# Altium schematic symbol library diy-modules.SCHLIB: 111 symbols (part 2 of 2)
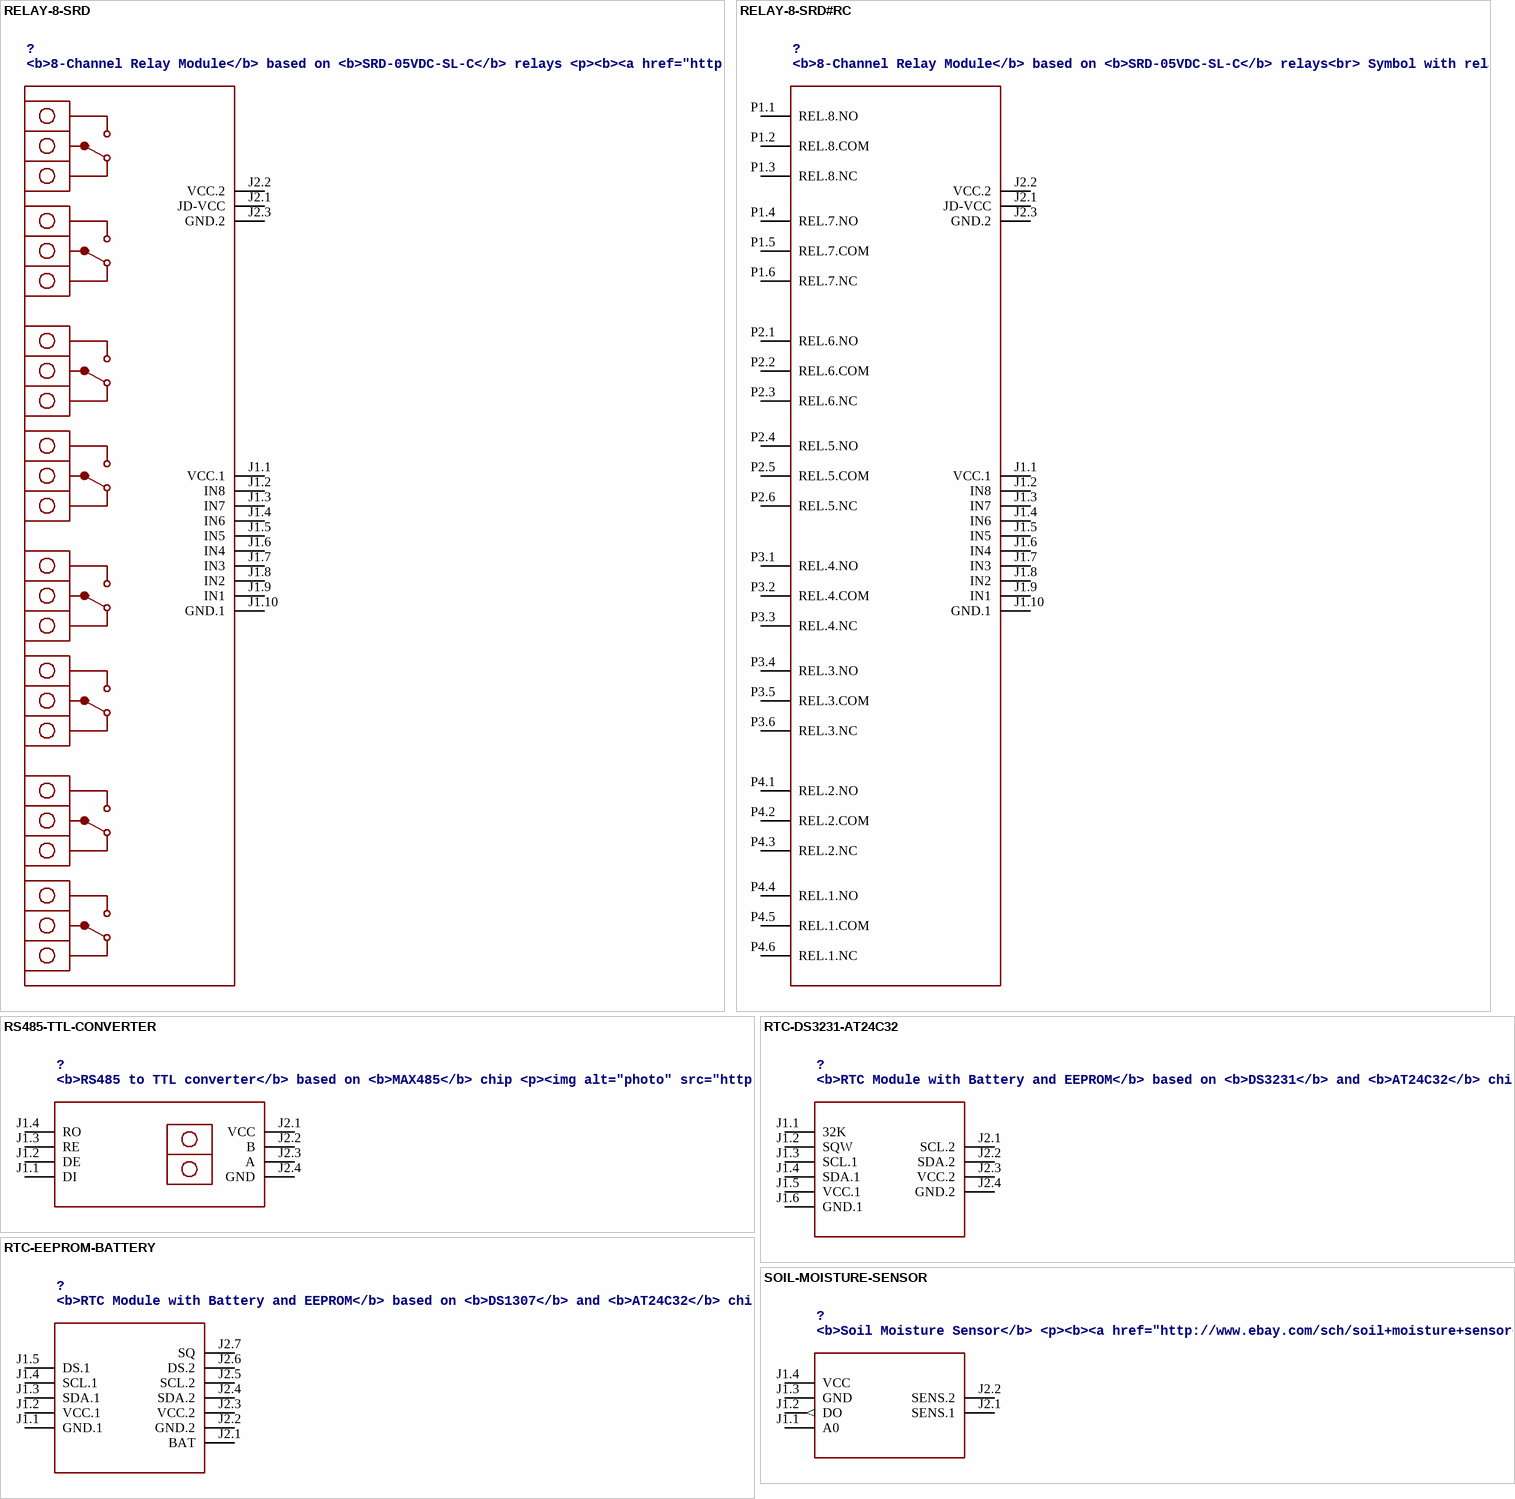
[diagram p15: symbols RELAY-8-SRD to SOIL-MOISTURE-SENSOR]

## RTC-EEPROM-BATTERY
designator ?, comment <b>RTC Module with Battery and EEPROM</b> based on <b>DS1307</b> and <b>AT24C32</b> chips / <p>More details available here:<br><a href="http://henrysbench.capnfatz.com/henrys-bench/arduino-sensors-and-input/arduino-tiny-rtc-d1307-tutorial/"> / http://henrysbench.capnfatz.com/henrys-bench/arduino-sensors-and-input/arduino-tiny-rtc-d1307-tutorial/</a></p> / <p><b><a href="http://www.ebay.com/sch/tiny+rtc+arduino">Click here to find device on ebay.com</a></b></p> / <p><img alt="photo" src="http://www.diymodules.org/img/device-photo.php?name=RTC-EEPROM-BATTERY"></p>
footprint RTC-EEPROM-BATTERY
pins: J1.1 GND.1 (power), J1.2 VCC.1 (power), J1.3 SDA.1, J1.4 SCL.1, J1.5 DS.1, J2.1 BAT, J2.2 GND.2 (power), J2.3 VCC.2 (power), J2.4 SDA.2, J2.5 SCL.2, J2.6 DS.2, J2.7 SQ

## SOIL-MOISTURE-SENSOR
designator ?, comment <b>Soil Moisture Sensor</b> / <p><b><a href="http://www.ebay.com/sch/soil+moisture+sensor+arduino">Click here to find device on ebay.com</a></b></p> / <p><img alt="photo" src="http://www.diymodules.org/img/device-photo.php?name=SOIL-MOISTURE-SENSOR"></p>
footprint SOIL-MOISTURE-SENSOR
pins: J1.1 A0, J1.2 DO (out), J1.3 GND (power), J1.4 VCC (power), J2.1 SENS.1, J2.2 SENS.2

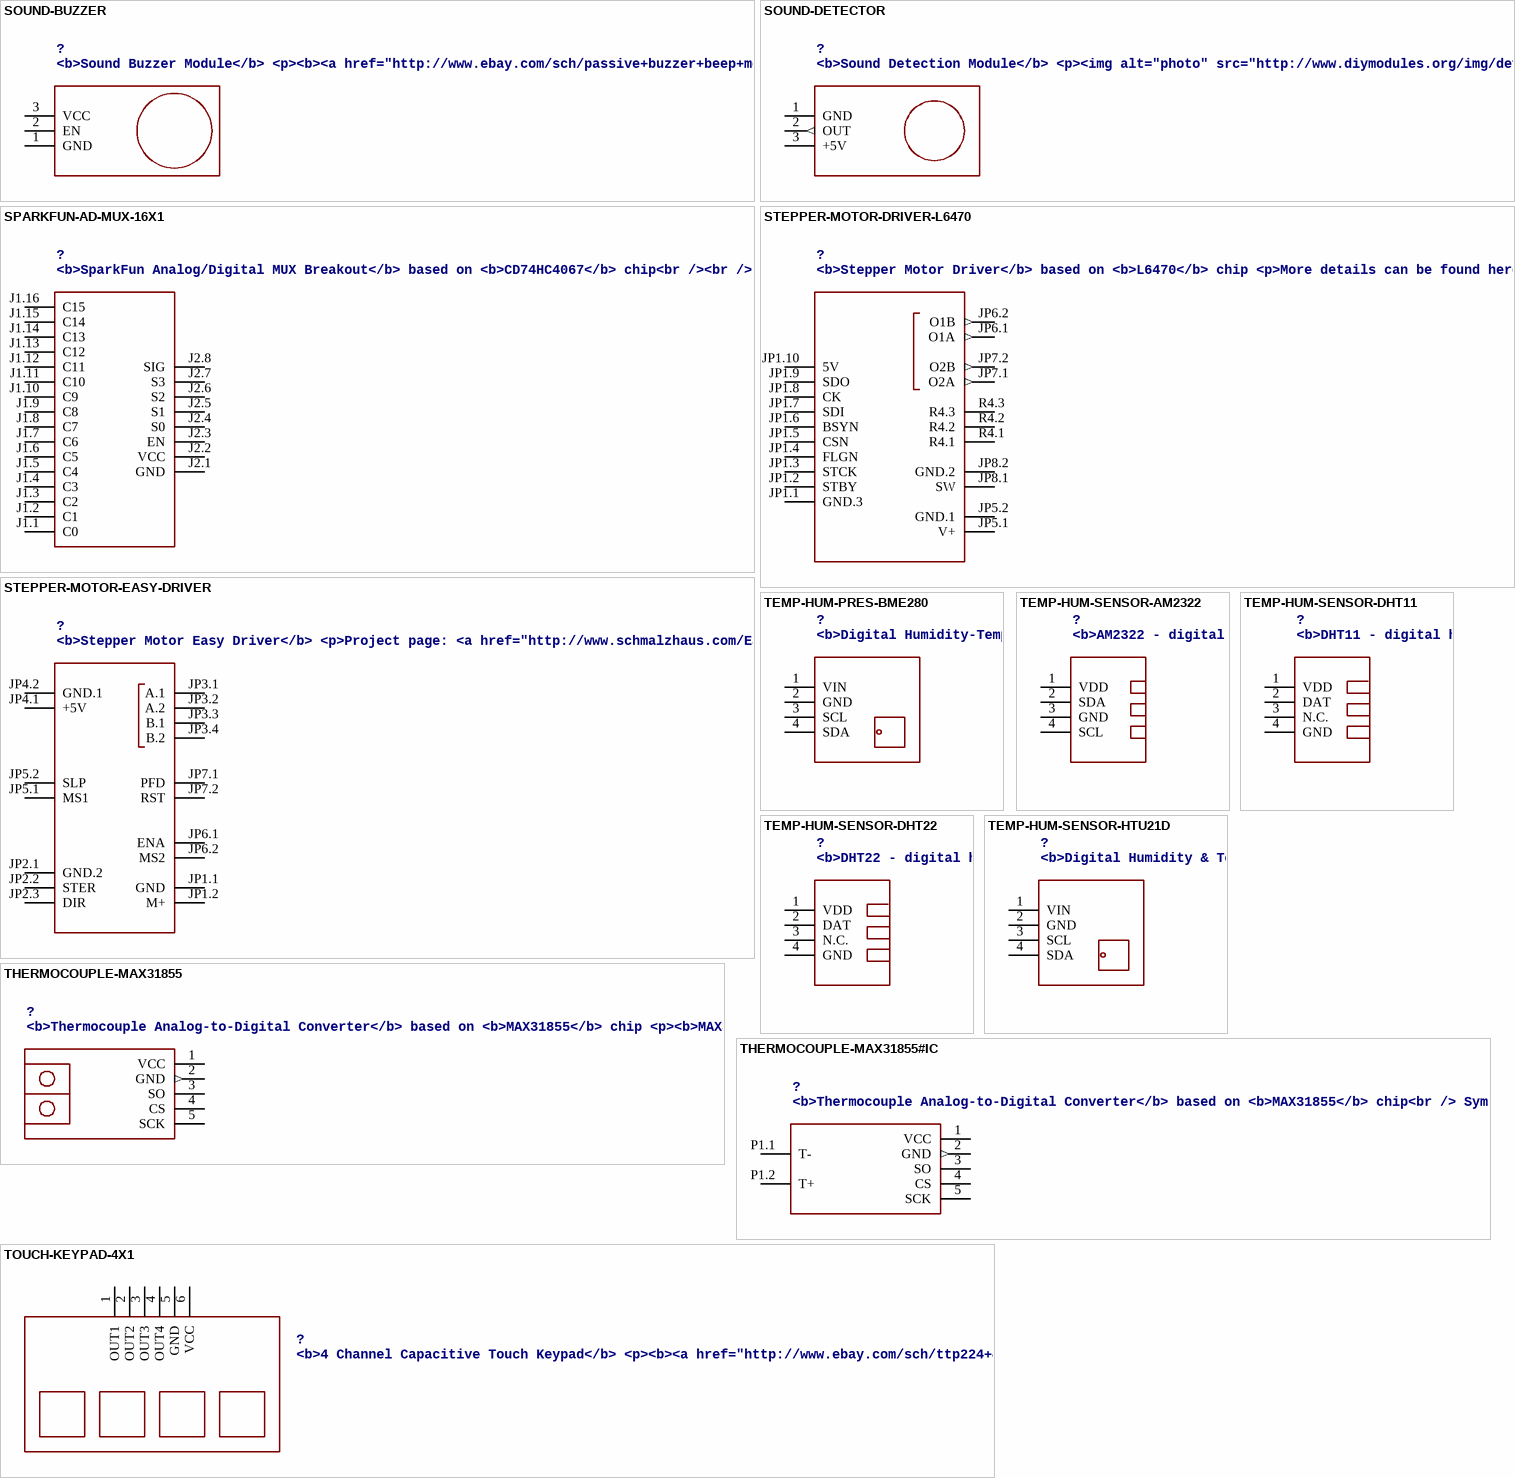
[diagram p11: symbols SOUND-BUZZER to TOUCH-KEYPAD-4X1]

## SOUND-BUZZER
designator ?, comment <b>Sound Buzzer Module</b> / <p><b><a href="http://www.ebay.com/sch/passive+buzzer+beep+module">Click here to find device on ebay.com</a></b></p> / <p><img alt="photo" src="http://www.diymodules.org/img/device-photo.php?name=SOUND-BUZZER"></p>
footprint SOUND-BUZZER
pins: 1 GND (power), 2 EN, 3 VCC (power)

## SOUND-DETECTOR
designator ?, comment <b>Sound Detection Module</b> / <p><img alt="photo" src="http://www.diymodules.org/img/device-photo.php?name=SOUND-DETECTOR"></p>
footprint SOUND-DETECTOR
pins: 1 GND (power), 2 OUT (out), 3 +5V (power)

## SPARKFUN-AD-MUX-16X1
designator ?, comment <b>SparkFun Analog/Digital MUX Breakout</b> based on <b>CD74HC4067</b> chip<br /><br /> / Source: <a href="https://www.sparkfun.com/products/9056">https://www.sparkfun.com/products/9056</a><br /> / <p><img alt="photo" src="http://www.diymodules.org/img/device-photo.php?name=SPARKFUN-AD-MUX-16X1"></p>
footprint SPARKFUN-AD-MUX-16X1
pins: J1.1 C0, J1.2 C1, J1.3 C2, J1.4 C3, J1.5 C4, J1.6 C5, J1.7 C6, J1.8 C7, J1.9 C8, J1.10 C9, J1.11 C10, J1.12 C11, J1.13 C12, J1.14 C13, J1.15 C14, J1.16 C15, J2.1 GND (power), J2.2 VCC (power), J2.3 EN, J2.4 S0, J2.5 S1, J2.6 S2, J2.7 S3, J2.8 SIG

## STEPPER-MOTOR-DRIVER-L6470
designator ?, comment <b>Stepper Motor Driver</b> based on <b>L6470</b> chip / <p>More details can be found here:<br /> / <a href="https://www.sparkfun.com/products/retired/10859">https://www.sparkfun.com/products/retired/10859</a></p> / <p><b>L6470</b> datasheet is available here:<br /> / <a href="www.st.com/resource/en/datasheet/CD00255075.pdf">www.st.com/resource/en/datasheet/CD00255075.pdf</a></p> / <p><b><a href="http://www.ebay.com/sch/l6470+breakout">Click here to find device on ebay.com</a></b></p> / <p><img alt="photo" src="http://www.diymodules.org/img/device-photo.php?name=STEPPER-MOTOR-DRIVER-L6470"></p>
footprint STEPPER-MOTOR-DRIVER-L6470
pins: JP1.1 GND.3 (power), JP1.2 STBY, JP1.3 STCK, JP1.4 FLGN, JP1.5 CSN, JP1.6 BSYN, JP1.7 SDI, JP1.8 CK, JP1.9 SDO, JP1.10 5V (power), JP5.1 V+ (power), JP5.2 GND.1 (power), JP6.1 O1A (out), JP6.2 O1B (out), JP7.1 O2A (out), JP7.2 O2B (out), JP8.1 SW, JP8.2 GND.2, R4.1, R4.2, R4.3

## STEPPER-MOTOR-EASY-DRIVER
designator ?, comment <b>Stepper Motor Easy Driver</b> / <p>Project page: <a href="http://www.schmalzhaus.com/EasyDriver/">http://www.schmalzhaus.com/EasyDriver/</a></p> / <p><b><a href="http://www.ebay.com/sch/easydriver+stepper+motor+driver">Click here to find device on ebay.com</a></b></p> / <p><img alt="photo" src="http://www.diymodules.org/img/device-photo.php?name=STEPPER-MOTOR-EASY-DRIVER"></p>
footprint STEPPER-MOTOR-EASY-DRIVER
pins: JP1.1 GND, JP1.2 M+, JP2.1 GND.2, JP2.2 STER, JP2.3 DIR, JP3.1 A.1, JP3.2 A.2, JP3.3 B.1, JP3.4 B.2, JP4.1 +5V, JP4.2 GND.1, JP5.1 MS1, JP5.2 SLP, JP6.1 ENA, JP6.2 MS2, JP7.1 PFD, JP7.2 RST

## TEMP-HUM-PRES-BME280
designator ?, comment <b>Digital Humidity-Temperature-Pressure Sensor</b> based on <b>BME280</b> device / <p>More information about <b>BME280</b> device is available here:<br> / <a href="https://www.bosch-sensortec.com/bst/products/all_products/bme280">https://www.bosch-sensortec.com/bst/products/all_products/bme280</a></p> / <p><b><a href="http://www.ebay.com/sch/bme280+breakout">Click here to find device on ebay.com</a></b></p> / <p><img alt="photo" src="http://www.diymodules.org/img/device-photo.php?name=TEMP-HUM-PRES-BME280"></p>
footprint TEMP-HUM-PRES-BME280
pins: 1 VIN (power), 2 GND (power), 3 SCL, 4 SDA

## TEMP-HUM-SENSOR-AM2322
designator ?, comment <b>AM2322 - digital humidity & temperature sensor</b> / <p>More information about <b>AM2322</b> is available here:<br> / <a href="http://www.electrodragon.com/w/AM2322">http://www.electrodragon.com/w/AM2322</a></p> / <p><b><a href="http://www.ebay.com/sch/am2322+digital+sensor">Click here to find device on ebay.com</a></b></p> / <p><img alt="photo" src="http://www.diymodules.org/img/device-photo.php?name=TEMP-HUM-SENSOR-AM2322"></p>
footprint TEMP-HUM-SENSOR-AM2322
pins: 1 VDD (power), 2 SDA, 3 GND (power), 4 SCL

## TEMP-HUM-SENSOR-DHT11
designator ?, comment <b>DHT11 - digital humidity & temperature sensor</b> / <p><b>DHT11</b> datasheet available here:<br> / <a href="https://akizukidenshi.com/download/ds/aosong/DHT11.pdf">https://akizukidenshi.com/download/ds/aosong/DHT11.pdf</a></p> / <p><b><a href="http://www.ebay.com/sch/dht11+digital+sensor">Click here to find device on ebay.com</a></b></p> / <p><img alt="photo" src="http://www.diymodules.org/img/device-photo.php?name=TEMP-HUM-SENSOR-DHT11"></p>
footprint TEMP-HUM-SENSOR-DHT11
pins: 1 VDD (power), 2 DAT, 3 N.C., 4 GND (power)

## TEMP-HUM-SENSOR-DHT22
designator ?, comment <b>DHT22 - digital humidity & temperature sensor</b><br /> / Also known as: <b>AM2302</b> / <p><b>AM2302</b> datasheet available here:<br> / <a href="http://akizukidenshi.com/download/ds/aosong/AM2302.pdf">http://akizukidenshi.com/download/ds/aosong/AM2302.pdf</a></p> / <p><b><a href="http://www.ebay.com/sch/dht22+digital+sensor">Click here to find device on ebay.com</a></b></p> / <p><img alt="photo" src="http://www.diymodules.org/img/device-photo.php?name=TEMP-HUM-SENSOR-DHT22"></p>
footprint TEMP-HUM-SENSOR-DHT22
pins: 1 VDD (power), 2 DAT, 3 N.C., 4 GND (power)

## TEMP-HUM-SENSOR-HTU21D
designator ?, comment <b>Digital Humidity & Temperature Sensor</b> based on <b>HTU21D</b> device / <p>More information about <b>HTU21D</b> device is available here:<br> / <a href="http://futureeverything.org/wp-content/uploads/2014/05/Humidity-Datasheet.pdf">http://futureeverything.org/wp-content/uploads/2014/05/Humidity-Datasheet.pdf</a></p> / <p><b>HTU21D</b> Arudino Library is available here:<br> / <a href="https://learn.sparkfun.com/tutorials/htu21d-humidity-sensor-hookup-guide/htu21d-library-and-functions">https://learn.sparkfun.com/tutorials/htu21d-humidity-sensor-hookup-guide/htu21d-library-and-functions</a></p> / <p><b><a href="http://www.ebay.com/sch/htu21d+board">Click here to find device on ebay.com</a></b></p><p><img alt="photo" src="http://www.diymodules.org/img/device-photo.php?name=TEMP-HUM-SENSOR-HTU21D"></p>
footprint TEMP-HUM-SENSOR-HTU21D
pins: 1 VIN (power), 2 GND (power), 3 SCL, 4 SDA

## THERMOCOUPLE-MAX31855
designator ?, comment <b>Thermocouple Analog-to-Digital Converter</b> based on <b>MAX31855</b> chip / <p><b>MAX31855</b> datasheet available here:<br /> / <a href="https://www.maximintegrated.com/en/products/analog/sensors-and-sensor-interface/MAX31855.html">https://www.maximintegrated.com/en/products/analog/sensors-and-sensor-interface/MAX31855.html</a></p> / <p><b><a href="http://www.ebay.com/sch/max31855k+module">Click here to find device on ebay.com</a></b></p> / <p><img alt="photo" src="http://www.diymodules.org/img/device-photo.php?name=THERMOCOUPLE-MAX31855"></p>
footprint THERMOCOUPLE-MAX31855
pins: 1 VCC (power), 2 GND (out), 3 SO, 4 CS, 5 SCK

## THERMOCOUPLE-MAX31855#IC
designator ?, comment <b>Thermocouple Analog-to-Digital Converter</b> based on <b>MAX31855</b> chip<br /> / Symbol with thermocouple connector pins / <p><b>MAX31855</b> datasheet available here:<br /> / <a href="https://www.maximintegrated.com/en/products/analog/sensors-and-sensor-interface/MAX31855.html">https://www.maximintegrated.com/en/products/analog/sensors-and-sensor-interface/MAX31855.html</a></p> / <p><b><a href="http://www.ebay.com/sch/max31855k+module">Click here to find device on ebay.com</a></b></p> / <p><img alt="photo" src="http://www.diymodules.org/img/device-photo.php?name=THERMOCOUPLE-MAX31855"></p>
footprint THERMOCOUPLE-MAX31855#IC
pins: 1 VCC (power), 2 GND (out), 3 SO, 4 CS, 5 SCK, P1.1 T-, P1.2 T+

## TOUCH-KEYPAD-4X1
designator ?, comment <b>4 Channel Capacitive Touch Keypad</b> / <p><b><a href="http://www.ebay.com/sch/ttp224+4+channel+digital+capacitive+touch+sensor">Click here to find device on ebay.com</a></b></p> / <p><img alt="photo" src="http://www.diymodules.org/img/device-photo.php?name=TOUCH-KEYPAD-4X1"></p>
footprint TOUCH-KEYPAD-4X1
pins: 1 OUT1, 2 OUT2, 3 OUT3, 4 OUT4, 5 GND (power), 6 VCC (power)

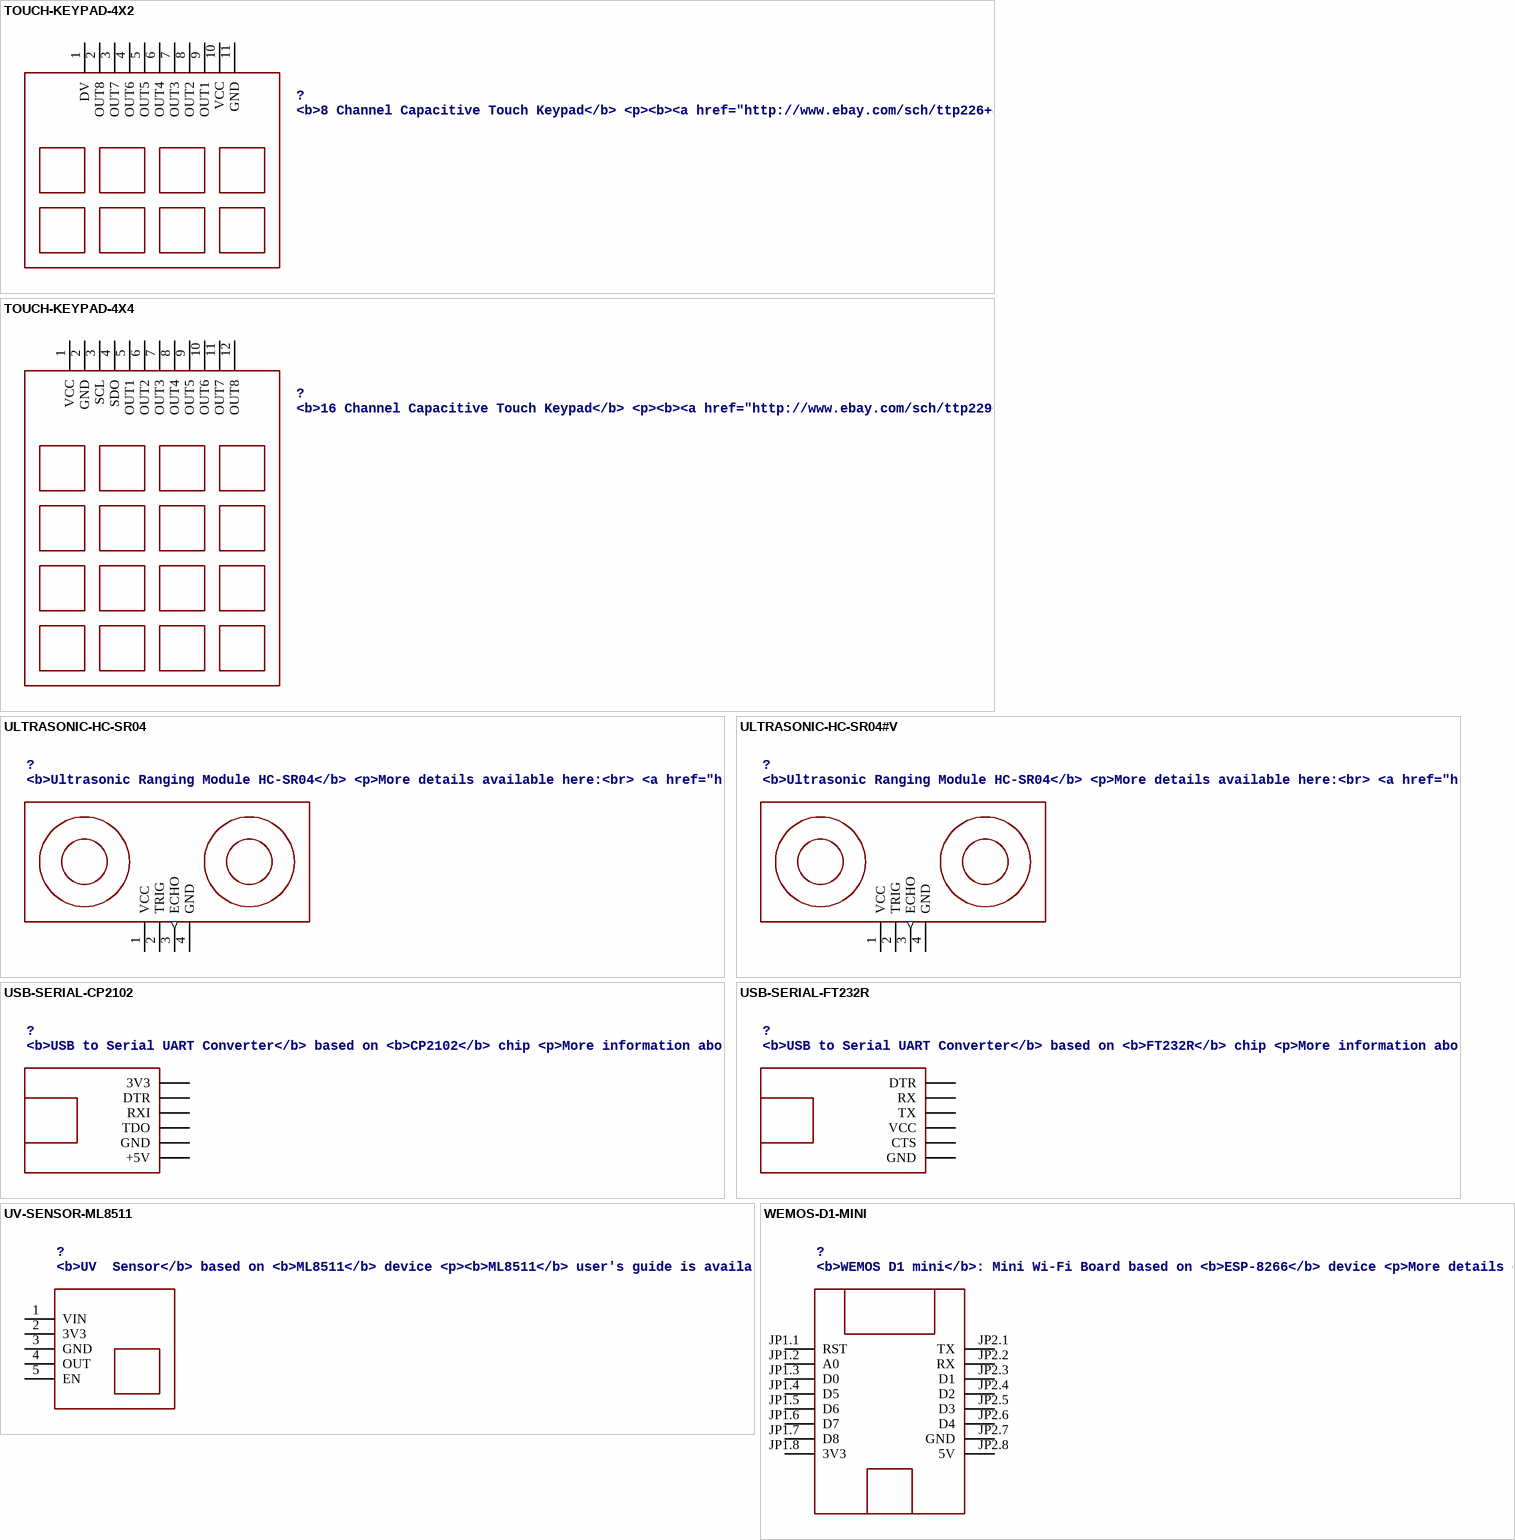
[diagram p12: symbols TOUCH-KEYPAD-4X2 to WEMOS-D1-MINI]

## TOUCH-KEYPAD-4X2
designator ?, comment <b>8 Channel Capacitive Touch Keypad</b> / <p><b><a href="http://www.ebay.com/sch/ttp226+8+channel+digital+capacitive+touch+sensor">Click here to find device on ebay.com</a></b></p> / <p><img alt="photo" src="http://www.diymodules.org/img/device-photo.php?name=TOUCH-KEYPAD-4X2"></p>
footprint TOUCH-KEYPAD-4X2
pins: 1 DV, 2 OUT8, 3 OUT7, 4 OUT6, 5 OUT5, 6 OUT4, 7 OUT3, 8 OUT2, 9 OUT1, 10 VCC (power), 11 GND (power)

## TOUCH-KEYPAD-4X4
designator ?, comment <b>16 Channel Capacitive Touch Keypad</b> / <p><b><a href="http://www.ebay.com/sch/ttp229+16+channel+digital+capacitive+touch+sensor">Click here to find device on ebay.com</a></b></p> / <p><img alt="photo" src="http://www.diymodules.org/img/device-photo.php?name=TOUCH-KEYPAD-4X4"></p>
footprint TOUCH-KEYPAD-4X4
pins: 1 VCC (power), 2 GND (power), 3 SCL, 4 SDO, 5 OUT1, 6 OUT2, 7 OUT3, 8 OUT4, 9 OUT5, 10 OUT6, 11 OUT7, 12 OUT8

## ULTRASONIC-HC-SR04
designator ?, comment <b>Ultrasonic Ranging Module HC-SR04</b> / <p>More details available here:<br> / <a href="http://randomnerdtutorials.com/complete-guide-for-ultrasonic-sensor-hc-sr04/"> / http://randomnerdtutorials.com/complete-guide-for-ultrasonic-sensor-hc-sr04/</a></p> / <p><b><a href="http://www.ebay.com/sch/hc+sr04+ultrasonic">Click here to find device on ebay.com</a></b></p> / <p><img alt="photo" src="http://www.diymodules.org/img/device-photo.php?name=ULTRASONIC-HC-SR04"></p>
footprint ULTRASONIC-HC-SR04
pins: 1 VCC (power), 2 TRIG, 3 ECHO (out), 4 GND (power)

## ULTRASONIC-HC-SR04#V
designator ?, comment <b>Ultrasonic Ranging Module HC-SR04</b> / <p>More details available here:<br> / <a href="http://randomnerdtutorials.com/complete-guide-for-ultrasonic-sensor-hc-sr04/"> / http://randomnerdtutorials.com/complete-guide-for-ultrasonic-sensor-hc-sr04/</a></p> / <p><b><a href="http://www.ebay.com/sch/hc+sr04+ultrasonic">Click here to find device on ebay.com</a></b></p> / <p><img alt="photo" src="http://www.diymodules.org/img/device-photo.php?name=ULTRASONIC-HC-SR04"></p>
footprint ULTRASONIC-HC-SR04#V
pins: 1 VCC (power), 2 TRIG, 3 ECHO (out), 4 GND (power)

## USB-SERIAL-CP2102
designator ?, comment <b>USB to Serial UART Converter</b> based on <b>CP2102</b> chip / <p>More information about <b>CP2102</b> chip is available here:<br> / <a href="https://www.silabs.com/documents/public/data-sheets/CP2102-9.pdf">https://www.silabs.com/documents/public/data-sheets/CP2102-9.pdf</a></p> / <p>Drivers for <b>CP210x</b> devices are available here:<br> / <a href="http://www.silabs.com/products/development-tools/software/usb-to-uart-bridge-vcp-drivers">http://www.silabs.com/products/development-tools/software/usb-to-uart-bridge-vcp-drivers</a></p> / <p><b><a href="http://www.ebay.com/sch/cp2102+micro+usb">Click here to find device on ebay.com</a></b></p> / <p><img alt="photo" src="http://www.diymodules.org/img/device-photo.php?name=USB-SERIAL-CP2102"></p>
footprint USB-SERIAL-CP2102
pins: 1 3V3 (power), 2 DTR, 3 RXI, 4 TDO, 5 GND (power), 6 +5V (power)

## USB-SERIAL-FT232R
designator ?, comment <b>USB to Serial UART Converter</b> based on <b>FT232R</b> chip / <p>More information about <b>FT232R</b> chip is available here:<br> / <a href="http://www.ftdichip.com/Products/ICs/FT232R.htm">http://www.ftdichip.com/Products/ICs/FT232R.htm</a></p> / <p><b><a href="http://www.ebay.com/sch/ft232rl+arduino+download+max232">Click here to find device on ebay.com</a></b></p> / <p><img alt="photo" src="http://www.diymodules.org/img/device-photo.php?name=USB-SERIAL-FT232R"></p>
footprint USB-SERIAL-FT232R
pins: 1 DTR, 2 RX, 3 TX, 4 VCC (power), 5 CTS, 6 GND

## UV-SENSOR-ML8511
designator ?, comment <b>UV  Sensor</b> based on <b>ML8511</b> device / <p><b>ML8511</b> user's guide is available here:<br /> / <a href="https://learn.sparkfun.com/tutorials/ml8511-uv-sensor-hookup-guide/using-the-ml8511">https://learn.sparkfun.com/tutorials/ml8511-uv-sensor-hookup-guide/using-the-ml8511</a></p> / <p><b>ML8511</b> datasheet is available here:<br /> / <a href="https://www.mcs.anl.gov/research/projects/waggle/downloads/datasheets/lightsense/ml8511.pdf">https://www.mcs.anl.gov/research/projects/waggle/downloads/datasheets/lightsense/ml8511.pdf</a></p> / <p><b><a href="http://www.ebay.com/sch/ml8511+module">Click here to find device on ebay.com</a></b></p> / <p><img alt="photo" src="http://www.diymodules.org/img/device-photo.php?name=UV-SENSOR-ML8511"></p>
footprint UV-SENSOR-ML8511
pins: 1 VIN (power), 2 3V3 (power), 3 GND (power), 4 OUT, 5 EN

## WEMOS-D1-MINI
designator ?, comment <b>WEMOS D1 mini</b>: Mini Wi-Fi Board based on <b>ESP-8266</b> device / <p>More details can be found here:<br /> / <a href="https://www.wemos.cc/product/d1-mini.html">https://www.wemos.cc/product/d1-mini.html</a></p> / <p><b><a href="http://www.ebay.com/sch/wemos+d1+mini+nodemcu">Click here to find device on ebay.com</a></b></p> / <p><img alt="photo" src="http://www.diymodules.org/img/device-photo.php?name=WEMOS-D1-MINI"></p>
footprint WEMOS-D1-MINI
pins: JP1.1 RST, JP1.2 A0, JP1.3 D0, JP1.4 D5, JP1.5 D6, JP1.6 D7, JP1.7 D8, JP1.8 3V3 (power), JP2.1 TX, JP2.2 RX, JP2.3 D1, JP2.4 D2, JP2.5 D3, JP2.6 D4, JP2.7 GND (power), JP2.8 5V (power)

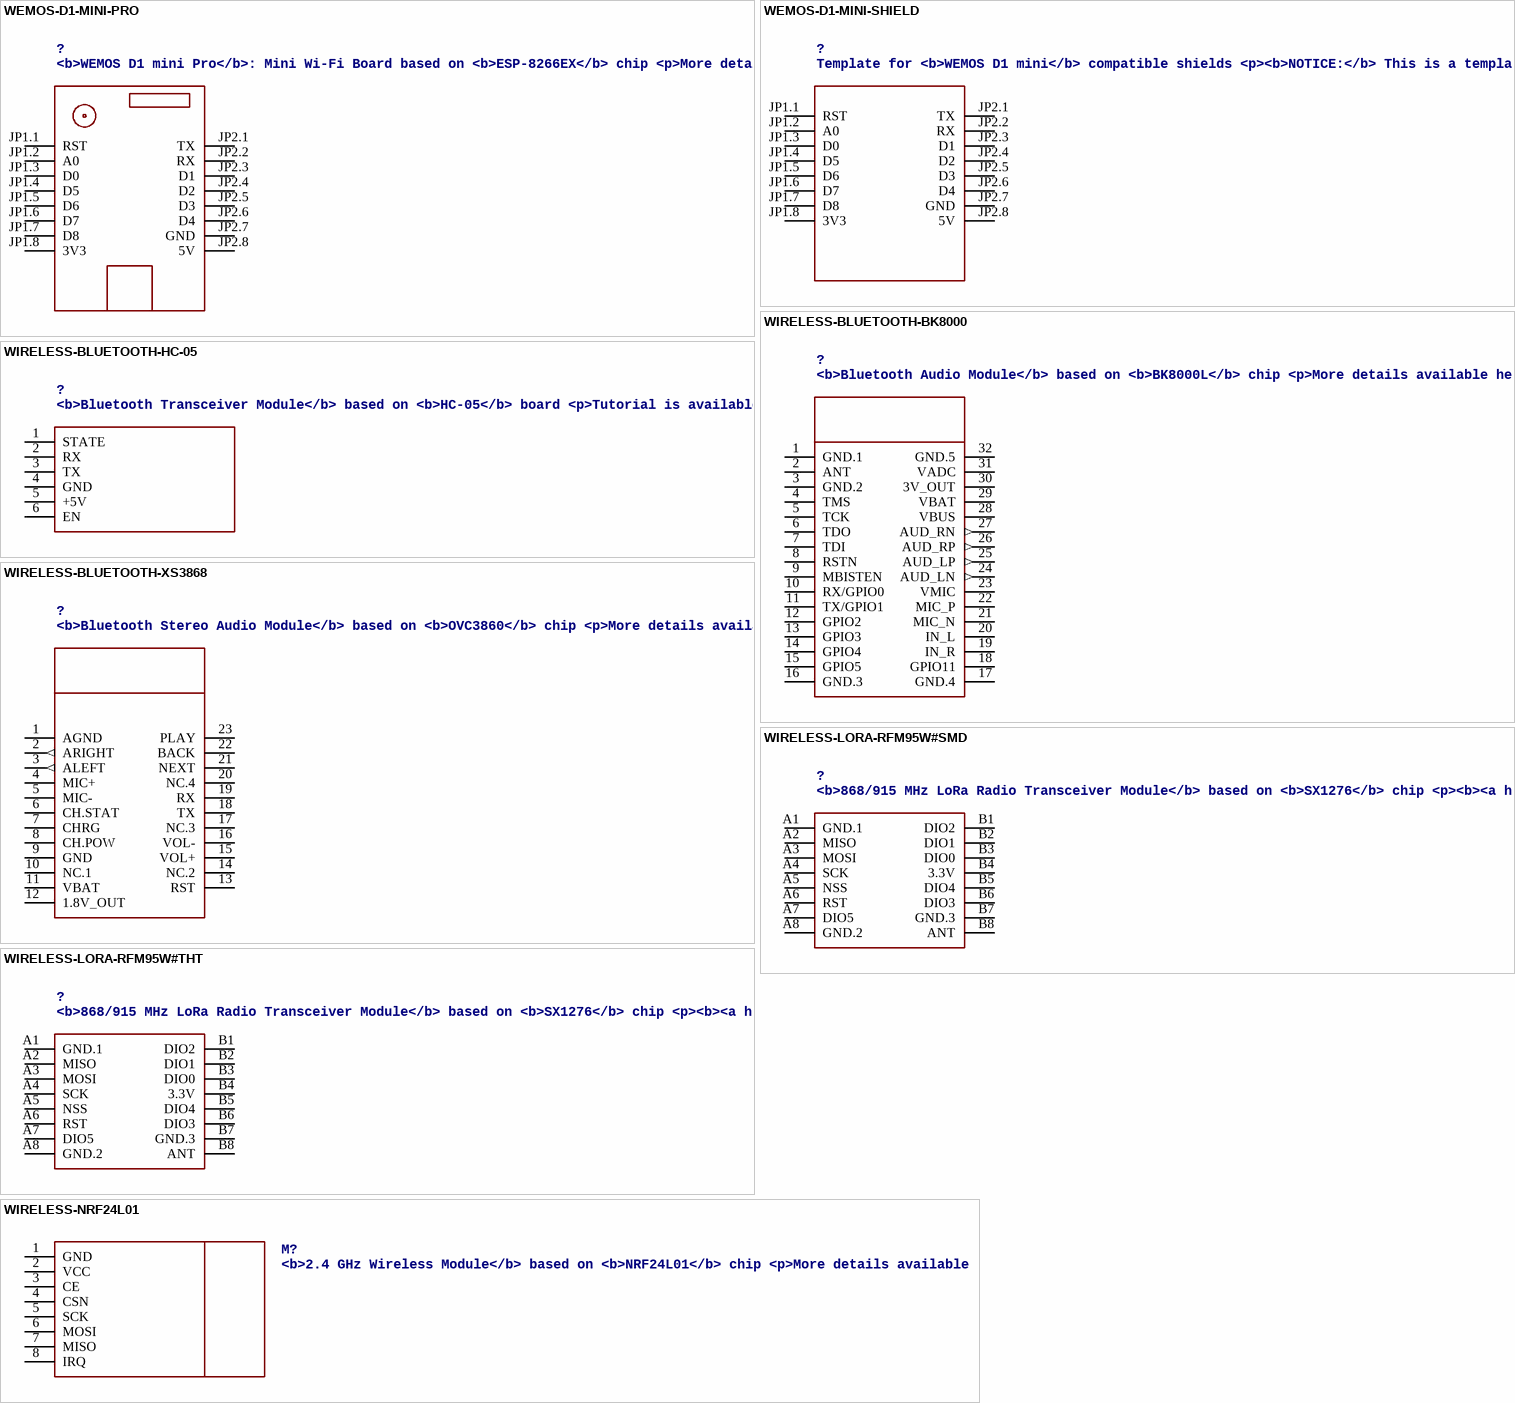
[diagram p13: symbols WEMOS-D1-MINI-PRO to WIRELESS-NRF24L01]

## WEMOS-D1-MINI-PRO
designator ?, comment <b>WEMOS D1 mini Pro</b>: Mini Wi-Fi Board based on <b>ESP-8266EX</b> chip / <p>More details can be found here:<br /> / <a href="https://www.wemos.cc/product/d1-mini-pro.html">https://www.wemos.cc/product/d1-mini-pro.html</a></p> / <p><b><a href="http://www.ebay.com/sch/wemos+d1+mini+pro">Click here to find device on ebay.com</a></b></p> / <p><img alt="photo" src="http://www.diymodules.org/img/device-photo.php?name=WEMOS-D1-MINI-PRO"></p>
footprint WEMOS-D1-MINI-PRO
pins: JP1.1 RST, JP1.2 A0, JP1.3 D0, JP1.4 D5, JP1.5 D6, JP1.6 D7, JP1.7 D8, JP1.8 3V3 (power), JP2.1 TX, JP2.2 RX, JP2.3 D1, JP2.4 D2, JP2.5 D3, JP2.6 D4, JP2.7 GND (power), JP2.8 5V (power)

## WEMOS-D1-MINI-SHIELD
designator ?, comment Template for <b>WEMOS D1 mini</b> compatible shields / <p><b>NOTICE:</b> This is a template only.<br />You can use it as a base to create symbols for <b>WEMOS D1 mini</b> compatible shields. / <p>Official list of available shields can be found here:<br /> / <a href="https://www.wemos.cc/D1-mini-Shields">https://www.wemos.cc/D1-mini-Shields</a></p>
footprint WEMOS-D1-MINI-SHIELD
pins: JP1.1 RST, JP1.2 A0, JP1.3 D0, JP1.4 D5, JP1.5 D6, JP1.6 D7, JP1.7 D8, JP1.8 3V3 (power), JP2.1 TX, JP2.2 RX, JP2.3 D1, JP2.4 D2, JP2.5 D3, JP2.6 D4, JP2.7 GND (power), JP2.8 5V (power)

## WIRELESS-BLUETOOTH-BK8000
designator ?, comment <b>Bluetooth Audio Module</b> based on <b>BK8000L</b> chip / <p>More details available here:<br /> / <a href="http://www.electrodragon.com/w/BK8000L">http://www.electrodragon.com/w/BK8000L</a></p> / <p><b><a href="http://www.ebay.com/sch/bk8000l+module">Click here to find device on ebay.com</a></b></p> / <p><img alt="photo" src="http://www.diymodules.org/img/device-photo.php?name=WIRELESS-BLUETOOTH-BK8000"></p>
footprint WIRELESS-BLUETOOTH-BK8000
pins: 1 GND.1 (power), 2 ANT, 3 GND.2 (power), 4 TMS, 5 TCK, 6 TDO, 7 TDI, 8 RSTN, 9 MBISTEN, 10 RX/GPIO0, 11 TX/GPIO1, 12 GPIO2, 13 GPIO3, 14 GPIO4, 15 GPIO5, 16 GND.3 (power), 17 GND.4 (power), 18 GPIO11, 19 IN_R, 20 IN_L, 21 MIC_N, 22 MIC_P, 23 VMIC, 24 AUD_LN (out), 25 AUD_LP (out), 26 AUD_RP (out), 27 AUD_RN (out), 28 VBUS, 29 VBAT, 30 3V_OUT (power), 31 VADC (power), 32 GND.5 (power)

## WIRELESS-BLUETOOTH-HC-05
designator ?, comment <b>Bluetooth Transceiver Module</b> based on <b>HC-05</b> board / <p>Tutorial is available here:<br /> / <a href="https://arduino-info.wikispaces.com/BlueTooth-HC05-HC06-Modules-How-To">https://arduino-info.wikispaces.com/BlueTooth-HC05-HC06-Modules-How-To</a></p> / <p><b><a href="http://www.ebay.com/sch/hc-05+module+rs232">Click here to find device on ebay.com</a></b></p> / <p><img alt="photo" src="http://www.diymodules.org/img/device-photo.php?name=WIRELESS-BLUETOOTH-HC-05"></p>
footprint WIRELESS-BLUETOOTH-HC-05
pins: 1 STATE, 2 RX, 3 TX, 4 GND (power), 5 +5V (power), 6 EN

## WIRELESS-BLUETOOTH-XS3868
designator ?, comment <b>Bluetooth Stereo Audio Module</b> based on <b>OVC3860</b> chip / <p>More details available here:<br> / <a href="http://artofcircuits.com/product/bluetooth-2-0-edr-stereo-audio-ovc3860-module-model-xs-3868"> / http://artofcircuits.com/product/bluetooth-2-0-edr-stereo-audio-ovc3860-module-model-xs-3868</a></p> / <p><b><a href="http://www.ebay.com/sch/xs3868+bluetooth+audio+module">Click here to find device on ebay.com</a></b></p> / <p><img alt="photo" src="http://www.diymodules.org/img/device-photo.php?name=WIRELESS-BLUETOOTH-XS3868"></p>
footprint WIRELESS-BLUETOOTH-XS3868
pins: 1 AGND (power), 2 ARIGHT (out), 3 ALEFT (out), 4 MIC+, 5 MIC-, 6 CH.STAT, 7 CHRG, 8 CH.POW, 9 GND (power), 10 NC.1, 11 VBAT (power), 12 1.8V_OUT (power), 13 RST (power), 14 NC.2, 15 VOL+, 16 VOL-, 17 NC.3, 18 TX, 19 RX, 20 NC.4, 21 NEXT, 22 BACK, 23 PLAY

## WIRELESS-LORA-RFM95W#SMD
designator ?, comment <b>868/915 MHz LoRa Radio Transceiver Module</b> based on <b>SX1276</b> chip / <p><b><a href="http://www.ebay.com/sch/RFM95W+transceiver">Click here to find device on ebay.com</a></b></p> / <p><img alt="photo" src="http://www.diymodules.org/img/device-photo.php?name=WIRELESS-LORA-RFM95W"></p>
footprint WIRELESS-LORA-RFM95W#SMD
pins: A1 GND.1 (power), A2 MISO, A3 MOSI, A4 SCK, A5 NSS, A6 RST, A7 DIO5, A8 GND.2 (power), B1 DIO2, B2 DIO1, B3 DIO0, B4 3.3V (power), B5 DIO4, B6 DIO3, B7 GND.3 (power), B8 ANT

## WIRELESS-LORA-RFM95W#THT
designator ?, comment <b>868/915 MHz LoRa Radio Transceiver Module</b> based on <b>SX1276</b> chip / <p><b><a href="http://www.ebay.com/sch/RFM95W+transceiver">Click here to find device on ebay.com</a></b></p> / <p><img alt="photo" src="http://www.diymodules.org/img/device-photo.php?name=WIRELESS-LORA-RFM95W"></p>
footprint WIRELESS-LORA-RFM95W#THT
pins: A1 GND.1 (power), A2 MISO, A3 MOSI, A4 SCK, A5 NSS, A6 RST, A7 DIO5, A8 GND.2 (power), B1 DIO2, B2 DIO1, B3 DIO0, B4 3.3V (power), B5 DIO4, B6 DIO3, B7 GND.3 (power), B8 ANT

## WIRELESS-NRF24L01
designator M?, comment <b>2.4 GHz Wireless Module</b> based on <b>NRF24L01</b> chip / <p>More details available here:<br> / <a href="http://www.electrodragon.com/w/NRF24L01">http://www.electrodragon.com/w/NRF24L01</a></p> / <p><b><a href="http://www.ebay.com/sch/nrf24l01+arduino">Click here to find device on ebay.com</a></b></p> / <p><img alt="photo" src="http://www.diymodules.org/img/device-photo.php?name=WIRELESS-NRF24L01"></p>
footprint WIRELESS-NRF24L01
pins: 1 GND (power), 2 VCC (power), 3 CE, 4 CSN, 5 SCK, 6 MOSI, 7 MISO, 8 IRQ

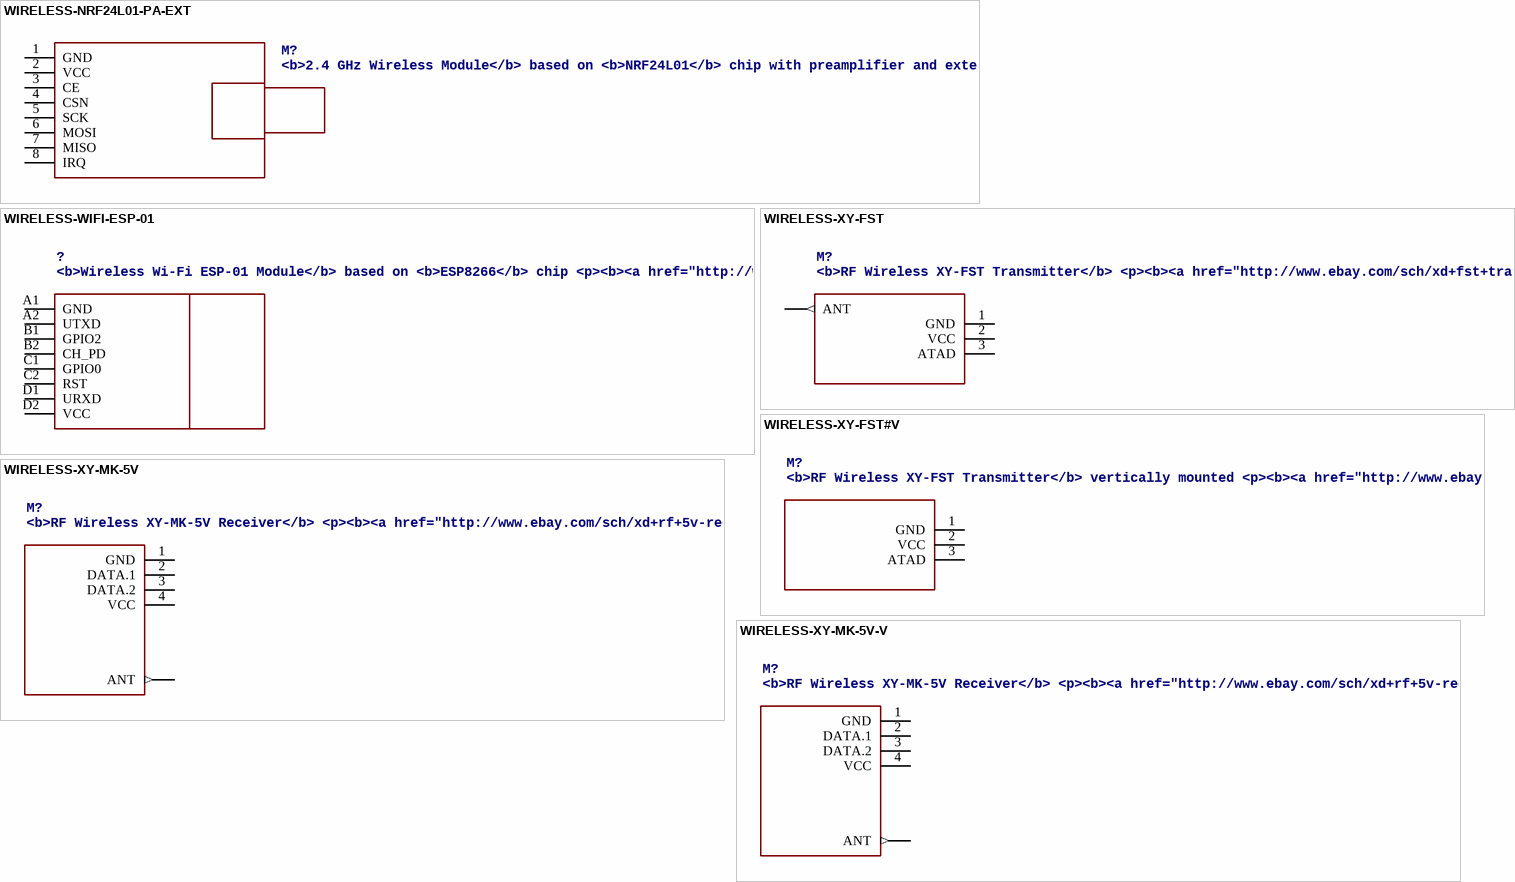
[diagram p14: symbols WIRELESS-NRF24L01-PA-EXT to WIRELESS-XY-MK-5V-V]

## WIRELESS-NRF24L01-PA-EXT
designator M?, comment <b>2.4 GHz Wireless Module</b> based on <b>NRF24L01</b> chip with preamplifier and external antenna / <p><b><a href="http://www.ebay.com/sch/nrf24l01+pa+lna+sma">Click here to find device on ebay.com</a></b></p> / <p><img alt="photo" src="http://www.diymodules.org/img/device-photo.php?name=WIRELESS-NRF24L01-PA-EXT"></p>
footprint WIRELESS-NRF24L01-PA-EXT
pins: 1 GND (power), 2 VCC (power), 3 CE, 4 CSN, 5 SCK, 6 MOSI, 7 MISO, 8 IRQ

## WIRELESS-WIFI-ESP-01
designator ?, comment <b>Wireless Wi-Fi ESP-01 Module</b> based on <b>ESP8266</b> chip / <p><b><a href="http://www.ebay.com/sch/esp8266+esp+01+transceiver">Click here to find device on ebay.com</a></b></p> / <p><img alt="photo" src="http://www.diymodules.org/img/device-photo.php?name=WIRELESS-WIFI-ESP-01"></p>
footprint WIRELESS-WIFI-ESP-01
pins: A1 GND (power), A2 UTXD, B1 GPIO2, B2 CH_PD, C1 GPIO0, C2 RST, D1 URXD, D2 VCC (power)

## WIRELESS-XY-FST
designator M?, comment <b>RF Wireless XY-FST Transmitter</b> / <p><b><a href="http://www.ebay.com/sch/xd+fst+transmitter">Click here to find device on ebay.com</a></b><br /> / <b>Note:</b> Sold together with receiver.</p> / <p><img alt="photo" src="http://www.diymodules.org/img/device-photo.php?name=WIRELESS-XY-FST"></p>
footprint WIRELESS-XY-FST
pins: 1 GND (power), 2 VCC (power), 3 ATAD, ANT (out)

## WIRELESS-XY-FST#V
designator M?, comment <b>RF Wireless XY-FST Transmitter</b> vertically mounted / <p><b><a href="http://www.ebay.com/sch/xd+fst+transmitter">Click here to find device on ebay.com</a></b><br /> / <b>Note:</b> Sold together with receiver.</p> / <p><img alt="photo" src="http://www.diymodules.org/img/device-photo.php?name=WIRELESS-XY-FST"></p>
footprint WIRELESS-XY-FST#V
pins: 1 GND (power), 2 VCC (power), 3 ATAD

## WIRELESS-XY-MK-5V
designator M?, comment <b>RF Wireless XY-MK-5V Receiver</b> / <p><b><a href="http://www.ebay.com/sch/xd+rf+5v-receiver">Click here to find device on ebay.com</a></b><br /> / <b>Note:</b> Sold together with transmitter.</p> / <p><img alt="photo" src="http://www.diymodules.org/img/device-photo.php?name=WIRELESS-XY-MK-5V"></p>
footprint WIRELESS-XY-MK-5V
pins: 1 GND, 2 DATA.1, 3 DATA.2, 4 VCC, ANT (out)

## WIRELESS-XY-MK-5V-V
designator M?, comment <b>RF Wireless XY-MK-5V Receiver</b> / <p><b><a href="http://www.ebay.com/sch/xd+rf+5v-receiver">Click here to find device on ebay.com</a></b><br /> / <b>Note:</b> Sold together with transmitter.</p> / <p><img alt="photo" src="http://www.diymodules.org/img/device-photo.php?name=WIRELESS-XY-MK-5V"></p>
footprint WIRELESS-XY-MK-5V#V
pins: 1 GND, 2 DATA.1, 3 DATA.2, 4 VCC, ANT (out)